# EAGLE library part NINA-W102-00B (library NINA-W102-00B)
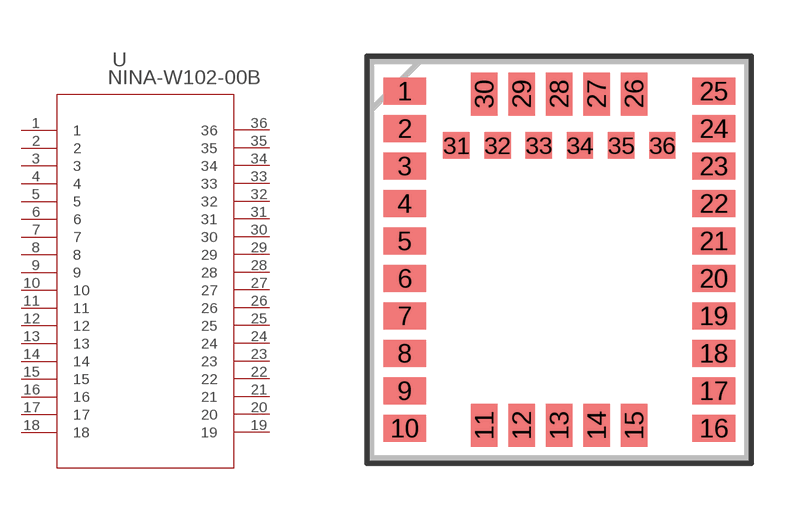
[diagram p0: symbol with the pads of QFN_W151-00B_UBL; footprint QFN_W151-00B_UBL]

Designator prefix U

## NINA-W102-00B (COPYRIGHT: Copyright (C) 2022 Ultra Librarian. All rights reserved.; DIGI-KEY_PART_NUMBER_1: 672-NINA-W102-00BCT-ND; DIGI-KEY_PART_NUMBER_2: 672-NINA-W102-00BDKR-ND; DIGI-KEY_PART_NUMBER_3: 672-NINA-W102-00BTR-ND; MANUFACTURER_PART_NUMBER: NINA-W102-00B; MFR_NAME: Ublox)  [QFN_W151-00B_UBL]
1  1  pas
2  2  pas
3  3  pas
4  4  pas
5  5  pas
6  6  pas
7  7  pas
8  8  pas
9  9  pwr
10  10  pwr
11  11  pas
12  12  pas
13  13  pas
14  14  pas
15  15  pas
16  16
17  17
18  18  pas
19  19  pas
20  20
21  21
22  22  pas
23  23  pas
24  24  pas
25  25  pas
26  26  pas
27  27  pas
28  28  pas
29  29  pas
30  30  pas
31  31  pas
32  32  pas
33  33  pas
34  34  pas
35  35  pas
36  36  pas

## Footprint QFN_W151-00B_UBL (pad centres in mm)
smd 1.143 x 0.711: 1 -4.125,4.5; 2 -4.125,3.5; 3 -4.125,2.5; 4 -4.125,1.5; 5 -4.125,0.5; 6 -4.125,-0.5; 7 -4.125,-1.5; 8 -4.125,-2.5; 9 -4.125,-3.5; 10 -4.125,-4.5; 16 4.125,-4.5; 17 4.125,-3.5; 18 4.125,-2.5; 19 4.125,-1.5; 20 4.125,-0.5; 21 4.125,0.5; 22 4.125,1.5; 23 4.125,2.5; 24 4.125,3.5; 25 4.125,4.5
smd 0.711 x 1.143: 11 -2,-4.425; 12 -1,-4.425; 13 0,-4.425; 14 1,-4.425; 15 2,-4.425; 26 2,4.425; 27 1,4.425; 28 0,4.425; 29 -1,4.425; 30 -2,4.425
smd 0.701 x 0.701: 31 -2.746,3.055; 32 -1.646,3.055; 33 -0.546,3.055; 34 0.554,3.055; 35 1.654,3.055; 36 2.754,3.055